# Altium footprint library MKP-12V1A - 副本.PcbLib: 23 footprints (part 2 of 2)
Each footprint in its own frame and in the unit in brackets; x right, y up, seen from the top. Pads: shape width x height; smd on the part's side, far side on the other; paste and mask are expansions set on the pad; w line width, h text height; cw(c..) or ccw(c..) is an arc to the next point about the centre after c.
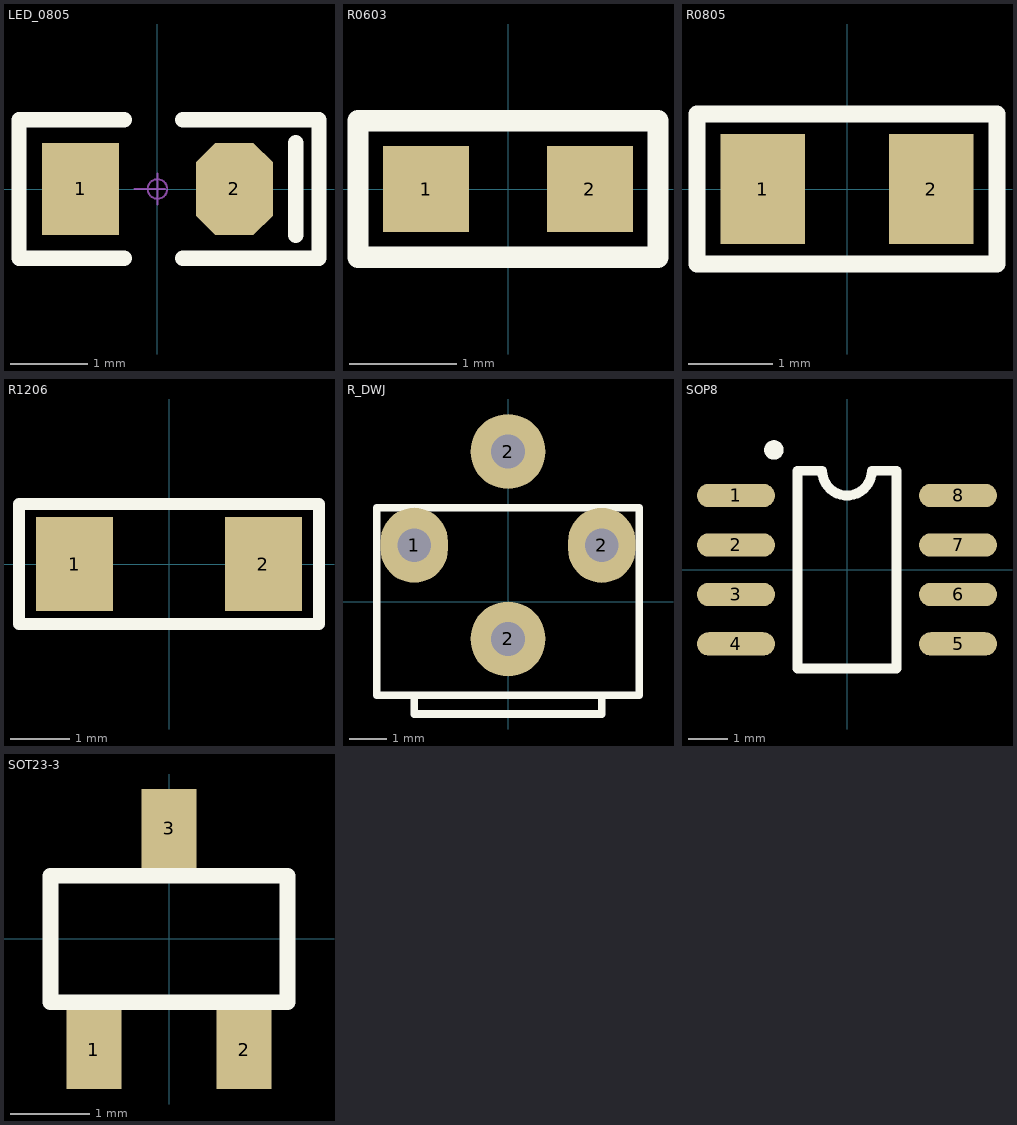
[diagram p1: the footprints below, top view; thin cyan lines are the x and y axes]

## LED_0805 [mm]
pads (2):
  rect 1x1.2 smd: 1(-1,0)
  oct 1x1.2 smd: 2(1,0)
Top Overlay:
  lines w0.2: -0.431,-0.9 -1.8,-0.9 -1.8,0.9 -0.431,0.9 ; 0.331,-0.9 2.1,-0.9 2.1,0.9 0.331,0.9 ; 1.8,-0.6 1.8,0.6
Mechanical 15:
  circle w0.025: c0,0 r0.127
  lines w0.025: -0.3,0 0.1,0 ; 0,-0.2 0,0.2
3D body "LED_0603-B.STEP": height 0.47, standoff 0, extent -0.8,-0.401 0.8,0.401
3D body "LED 0603玻?": height 0.61, standoff 0.21, extent -0.6,-0.4 0.6,0.4

## R0603 [mm]
pads (2):
  rect 0.8x0.8 smd: 1(-0.762,0) 2(0.762,0)
Top Overlay:
  lines w0.2: -1.397,-0.635 1.397,-0.635 1.397,0.635 -1.397,0.635 -1.397,-0.635
3D body "User Library-0603.step": height 0.4, standoff 0, extent -0.8,-0.4 0.8,0.4

## R0805 [mm]
pads (2):
  rect 1x1.3 smd: 1(-1,0) 2(1,0)
Top Overlay:
  lines w0.2: -1.778,-0.889 -1.778,0.889 1.778,0.889 1.778,-0.889 -1.778,-0.889
3D body "User Library-0805-1.step": height 0.5, standoff 0, extent -1,-0.625 1,0.625

## R1206 [mm]
pads (2):
  rect 1.3x1.6 smd: 1(-1.6,0) 2(1.6,0)
Top Overlay:
  lines w0.2: -2.54,-1.016 2.54,-1.016 2.54,1.016 -2.54,1.016 -2.54,-1.016
3D body "User Library-1206.step": height 0.58, standoff 0.02, extent -1.6,-0.8 1.6,0.8

## R_DWJ [mm]
pads (4):
  oval 1.8x2 hole 0.9: 1(-2.5,1.5) 2(2.5,1.5)
  round 2 hole 0.9: 2(0,-1) 2(0,4)
Top Overlay:
  lines w0.2: -2.5,-2.5 -2.5,-3 2.5,-3 2.5,-2.5 ; -3.5,-2.5 3.5,-2.5 3.5,2.5 -3.5,2.5 -3.5,-2.5

## SOP8 [mm]
pads (8):
  oval 2x0.6 smd: 1(-2.85,1.905) 2(-2.85,0.635) 3(-2.85,-0.635) 4(-2.85,-1.905) 5(2.85,-1.905) 6(2.85,-0.635) 7(2.85,0.635) 8(2.85,1.905)
Top Overlay:
  circle w0.25: c-1.878,3.073 r0.125
  lines w0.254: -1.27,-2.54 -1.27,2.54 -0.635,2.54 ccw(c0,2.54) 0.635,2.54 1.27,2.54 1.27,-2.54 -1.27,-2.54
3D body "SOP8.STEP": height 1.9, standoff 0, extent -3.071,-2.47 2.934,2.53

## SOT23-3 [mm]
pads (3):
  rect 0.7x1 smd: 1(-0.95,-1.4) 2(0.95,-1.4) 3(0,1.4)
Top Overlay:
  lines w0.2: -1.5,-0.8 1.5,-0.8 1.5,0.8 -1.5,0.8 -1.5,-0.8
3D body "User Library-SOT-23-2.step": height 1.08, standoff 0, extent -1.5,-1.32 1.5,1.32